# Altium footprint library 96FBGA_8X14.PcbLib: 1 footprints
Each footprint in its own frame and in the unit in brackets; x right, y up, seen from the top. Pads: shape width x height; smd on the part's side, far side on the other; paste and mask are expansions set on the pad; w line width, h text height; cw(c..) or ccw(c..) is an arc to the next point about the centre after c.
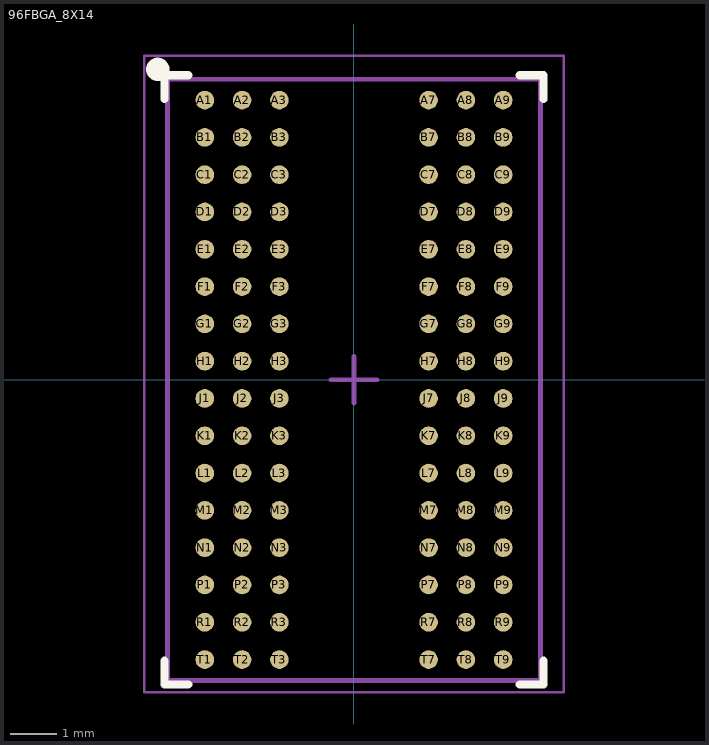
[diagram p0: the footprint, top view; thin cyan lines are the x and y axes]

## 96FBGA_8X14 [mm] "BGA, 78-Balls, Body 8x10.5mm, Pitch 0.8mm"
pads (96):
  round 0.4 smd: A1(-3.2,6) A2(-2.4,6) A3(-1.6,6) A7(1.6,6) A8(2.4,6) A9(3.2,6) B1(-3.2,5.2) B2(-2.4,5.2) B3(-1.6,5.2) B7(1.6,5.2) B8(2.4,5.2) B9(3.2,5.2) C1(-3.2,4.4) C2(-2.4,4.4) C3(-1.6,4.4) C7(1.6,4.4) C8(2.4,4.4) C9(3.2,4.4) D1(-3.2,3.6) D2(-2.4,3.6) D3(-1.6,3.6) D7(1.6,3.6) D8(2.4,3.6) D9(3.2,3.6) E1(-3.2,2.8) E2(-2.4,2.8) E3(-1.6,2.8) E7(1.6,2.8) E8(2.4,2.8) E9(3.2,2.8) F1(-3.2,2) F2(-2.4,2) F3(-1.6,2) F7(1.6,2) F8(2.4,2) F9(3.2,2) G1(-3.2,1.2) G2(-2.4,1.2) G3(-1.6,1.2) G7(1.6,1.2) G8(2.4,1.2) G9(3.2,1.2) H1(-3.2,0.4) H2(-2.4,0.4) H3(-1.6,0.4) H7(1.6,0.4) H8(2.4,0.4) H9(3.2,0.4) J1(-3.2,-0.4) J2(-2.4,-0.4) J3(-1.6,-0.4) J7(1.6,-0.4) J8(2.4,-0.4) J9(3.2,-0.4) K1(-3.2,-1.2) K2(-2.4,-1.2) K3(-1.6,-1.2) K7(1.6,-1.2) K8(2.4,-1.2) K9(3.2,-1.2) L1(-3.2,-2) L2(-2.4,-2) L3(-1.6,-2) L7(1.6,-2) L8(2.4,-2) L9(3.2,-2) M1(-3.2,-2.8) M2(-2.4,-2.8) M3(-1.6,-2.8) M7(1.6,-2.8) M8(2.4,-2.8) M9(3.2,-2.8) N1(-3.2,-3.6) N2(-2.4,-3.6) N3(-1.6,-3.6) N7(1.6,-3.6) N8(2.4,-3.6) N9(3.2,-3.6) P1(-3.2,-4.4) P2(-2.4,-4.4) P3(-1.6,-4.4) P7(1.6,-4.4) P8(2.4,-4.4) P9(3.2,-4.4) R1(-3.2,-5.2) R2(-2.4,-5.2) R3(-1.6,-5.2) R7(1.6,-5.2) R8(2.4,-5.2) R9(3.2,-5.2) T1(-3.2,-6) T2(-2.4,-6) T3(-1.6,-6) T7(1.6,-6) T8(2.4,-6) T9(3.2,-6)
Top Overlay:
  circle w0.25: c-4.21,6.66 r0.125
  lines w0.178: -4.064,-6.026 -4.064,-6.534 -3.556,-6.534 ; -4.064,6.026 -4.064,6.534 -3.556,6.534 ; 3.556,-6.534 4.064,-6.534 4.064,-6.026 ; 3.556,6.534 4.064,6.534 4.064,6.026
Mechanical 13:
  lines w0.1: -4,-6.45 -4,6.45 4,6.45 4,-6.45 -4,-6.45
Mechanical 15:
  lines w0.05: -4.5,-6.7 4.5,-6.7 4.5,6.95 -4.5,6.95 -4.5,-6.7
  lines w0.1: -0.5,0 0.5,0 ; 0,-0.5 0,0.5
Mechanical 17:
  text "'.Designator'" at -3.6,-0.4 h0.64
3D body: height 0.38, standoff -0.02, extent 3.001,-0.597 3.4,-0.203
3D body: height 0.38, standoff -0.02, extent 2.201,-0.597 2.6,-0.203
3D body: height 0.38, standoff -0.02, extent 1.401,-0.597 1.8,-0.203
3D body: height 0.38, standoff -0.02, extent -3.399,-0.597 -3,-0.203
3D body: height 0.38, standoff -0.02, extent -2.599,-0.597 -2.2,-0.203
3D body: height 0.38, standoff -0.02, extent -1.799,-0.597 -1.4,-0.203
3D body: height 0.38, standoff -0.02, extent 3.001,0.203 3.4,0.597
3D body: height 0.38, standoff -0.02, extent 2.201,0.203 2.6,0.597
3D body: height 0.38, standoff -0.02, extent 1.401,0.203 1.8,0.597
3D body: height 0.38, standoff -0.02, extent -3.399,0.203 -3,0.597
3D body: height 0.38, standoff -0.02, extent -2.599,0.203 -2.2,0.597
3D body: height 0.38, standoff -0.02, extent -1.799,0.203 -1.4,0.597
3D body: height 0.38, standoff -0.02, extent 3.001,1.003 3.4,1.397
3D body: height 0.38, standoff -0.02, extent 2.201,1.003 2.6,1.397
3D body: height 0.38, standoff -0.02, extent 1.401,1.003 1.8,1.397
3D body: height 0.38, standoff -0.02, extent -3.399,1.003 -3,1.397
3D body: height 0.38, standoff -0.02, extent -2.599,1.003 -2.2,1.397
3D body: height 0.38, standoff -0.02, extent -1.799,1.003 -1.4,1.397
3D body: height 0.38, standoff -0.02, extent 3.001,1.803 3.4,2.197
3D body: height 0.38, standoff -0.02, extent 2.201,1.803 2.6,2.197
3D body: height 0.38, standoff -0.02, extent 1.401,1.803 1.8,2.197
3D body: height 0.38, standoff -0.02, extent -3.399,1.803 -3,2.197
3D body: height 0.38, standoff -0.02, extent -2.599,1.803 -2.2,2.197
3D body: height 0.38, standoff -0.02, extent -1.799,1.803 -1.4,2.197
3D body: height 0.38, standoff -0.02, extent 3.001,2.603 3.4,2.997
3D body: height 0.38, standoff -0.02, extent 2.201,2.603 2.6,2.997
3D body: height 0.38, standoff -0.02, extent 1.401,2.603 1.8,2.997
3D body: height 0.38, standoff -0.02, extent -3.399,2.603 -3,2.997
3D body: height 0.38, standoff -0.02, extent -2.599,2.603 -2.2,2.997
3D body: height 0.38, standoff -0.02, extent -1.799,2.603 -1.4,2.997
3D body: height 0.38, standoff -0.02, extent 3.001,3.403 3.4,3.797
3D body: height 0.38, standoff -0.02, extent 2.201,3.403 2.6,3.797
3D body: height 0.38, standoff -0.02, extent 1.401,3.403 1.8,3.797
3D body: height 0.38, standoff -0.02, extent -3.399,3.403 -3,3.797
3D body: height 0.38, standoff -0.02, extent -2.599,3.403 -2.2,3.797
3D body: height 0.38, standoff -0.02, extent -1.799,3.403 -1.4,3.797
3D body: height 0.38, standoff -0.02, extent 3.001,4.203 3.4,4.597
3D body: height 0.38, standoff -0.02, extent 2.201,4.203 2.6,4.597
3D body: height 0.38, standoff -0.02, extent 1.401,4.203 1.8,4.597
3D body: height 0.38, standoff -0.02, extent -3.399,4.203 -3,4.597
3D body: height 0.38, standoff -0.02, extent -2.599,4.203 -2.2,4.597
3D body: height 0.38, standoff -0.02, extent -1.799,4.203 -1.4,4.597
3D body: height 0.38, standoff -0.02, extent 3.001,5.003 3.4,5.397
3D body: height 0.38, standoff -0.02, extent 2.201,5.003 2.6,5.397
3D body: height 0.38, standoff -0.02, extent 1.401,5.003 1.8,5.397
3D body: height 0.38, standoff -0.02, extent -3.399,5.003 -3,5.397
3D body: height 0.38, standoff -0.02, extent -2.599,5.003 -2.2,5.397
3D body: height 0.38, standoff -0.02, extent -1.799,5.003 -1.4,5.397
3D body: height 0.38, standoff -0.02, extent -1.799,5.803 -1.4,6.197
3D body: height 0.38, standoff -0.02, extent -2.599,5.803 -2.2,6.197
3D body: height 0.38, standoff -0.02, extent -3.399,5.803 -3,6.197
3D body: height 0.38, standoff -0.02, extent 1.401,5.803 1.8,6.197
3D body: height 0.38, standoff -0.02, extent 2.201,5.803 2.6,6.197
3D body: height 0.38, standoff -0.02, extent 3.001,5.803 3.4,6.197
3D body: height 0.38, standoff -0.02, extent -1.799,-1.397 -1.4,-1.003
3D body: height 0.38, standoff -0.02, extent -2.599,-1.397 -2.2,-1.003
3D body: height 0.38, standoff -0.02, extent -3.399,-1.397 -3,-1.003
3D body: height 0.38, standoff -0.02, extent 1.401,-1.397 1.8,-1.003
3D body: height 0.38, standoff -0.02, extent 2.201,-1.397 2.6,-1.003
3D body: height 0.38, standoff -0.02, extent 3.001,-1.397 3.4,-1.003
3D body: height 0.38, standoff -0.02, extent -1.799,-2.197 -1.4,-1.803
3D body: height 0.38, standoff -0.02, extent -2.599,-2.197 -2.2,-1.803
3D body: height 0.38, standoff -0.02, extent -3.399,-2.197 -3,-1.803
3D body: height 0.38, standoff -0.02, extent 1.401,-2.197 1.8,-1.803
3D body: height 0.38, standoff -0.02, extent 2.201,-2.197 2.6,-1.803
3D body: height 0.38, standoff -0.02, extent 3.001,-2.197 3.4,-1.803
3D body: height 0.38, standoff -0.02, extent -1.799,-2.997 -1.4,-2.603
3D body: height 0.38, standoff -0.02, extent -2.599,-2.997 -2.2,-2.603
3D body: height 0.38, standoff -0.02, extent -3.399,-2.997 -3,-2.603
3D body: height 0.38, standoff -0.02, extent 1.401,-2.997 1.8,-2.603
3D body: height 0.38, standoff -0.02, extent 2.201,-2.997 2.6,-2.603
3D body: height 0.38, standoff -0.02, extent 3.001,-2.997 3.4,-2.603
3D body: height 0.38, standoff -0.02, extent -1.799,-3.797 -1.4,-3.403
3D body: height 0.38, standoff -0.02, extent -2.599,-3.797 -2.2,-3.403
3D body: height 0.38, standoff -0.02, extent -3.399,-3.797 -3,-3.403
3D body: height 0.38, standoff -0.02, extent 1.401,-3.797 1.8,-3.403
3D body: height 0.38, standoff -0.02, extent 2.201,-3.797 2.6,-3.403
3D body: height 0.38, standoff -0.02, extent 3.001,-3.797 3.4,-3.403
3D body: height 0.38, standoff -0.02, extent 3.001,-4.597 3.4,-4.203
3D body: height 0.38, standoff -0.02, extent 2.201,-4.597 2.6,-4.203
3D body: height 0.38, standoff -0.02, extent 1.401,-4.597 1.8,-4.203
3D body: height 0.38, standoff -0.02, extent -3.399,-4.597 -3,-4.203
3D body: height 0.38, standoff -0.02, extent -2.599,-4.597 -2.2,-4.203
3D body: height 0.38, standoff -0.02, extent -1.799,-4.597 -1.4,-4.203
3D body: height 0.38, standoff -0.02, extent 3.001,-5.397 3.4,-5.003
3D body: height 0.38, standoff -0.02, extent 2.201,-5.397 2.6,-5.003
3D body: height 0.38, standoff -0.02, extent 1.401,-5.397 1.8,-5.003
3D body: height 0.38, standoff -0.02, extent -3.399,-5.397 -3,-5.003
3D body: height 0.38, standoff -0.02, extent -2.599,-5.397 -2.2,-5.003
3D body: height 0.38, standoff -0.02, extent -1.799,-5.397 -1.4,-5.003
3D body: height 0.38, standoff -0.02, extent 3.001,-6.197 3.4,-5.803
3D body: height 0.38, standoff -0.02, extent 2.201,-6.197 2.6,-5.803
3D body: height 0.38, standoff -0.02, extent 1.401,-6.197 1.8,-5.803
3D body: height 0.38, standoff -0.02, extent -3.399,-6.197 -3,-5.803
3D body: height 0.38, standoff -0.02, extent -2.599,-6.197 -2.2,-5.803
3D body: height 0.38, standoff -0.02, extent -1.799,-6.197 -1.4,-5.803
3D body: height 1.1, standoff 0.34, extent -4,-6.45 4,6.45